# Altium integrated library 1SMA4742.IntLib: 1 symbol
Pins are listed as number, name and electrical type; pins without a type are passive.

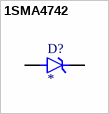
[diagram p0: symbol 1SMA4742]

## 1SMA4742
designator D?
MP: 1SMA4742; Availability: Unavailable; Price: None; Value: *; Package: None
footprint DIOM4325X250N
pins: A, C K